# EAGLE library part CON10 (library lpatiny)
CONNECTOR
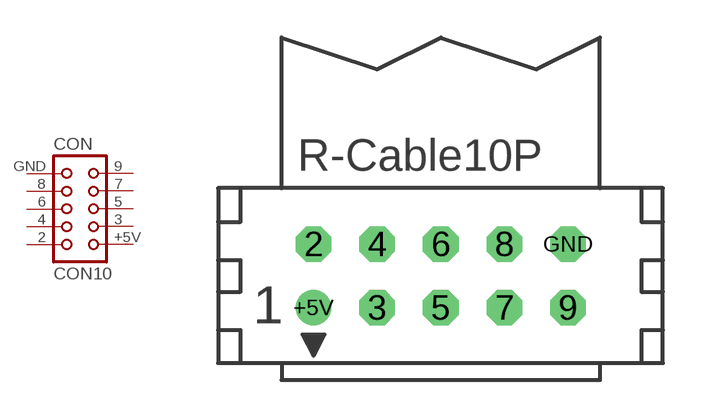
[diagram p7: symbol with the pads of CON10EXT; footprint CON10EXT]

Designator prefix CON

## CON10EXT (OC_FARNELL: unknown; OC_NEWARK: unknown)  [CON10EXT]
2  2  pas
3  3  pas
4  4  pas
5  5  pas
6  6  pas
7  7  pas
8  8  pas
9  9  pas
+5V  1  pas
GND  10  pas

## Footprint CON10EXT (pad centres in mm)
CONNECTOR
drill 0.914 octagon: 2 -5.08,1.27; 3 -2.54,-1.27; 4 -2.54,1.27; 5 0,-1.27; 6 0,1.27; 7 2.54,-1.27; 8 2.54,1.27; 9 5.08,-1.27; GND 5.08,1.27
drill 0.914: +5V -5.08,-1.27